# EAGLE library part RJ45-8-2 (library apollo-ctrl-v4)
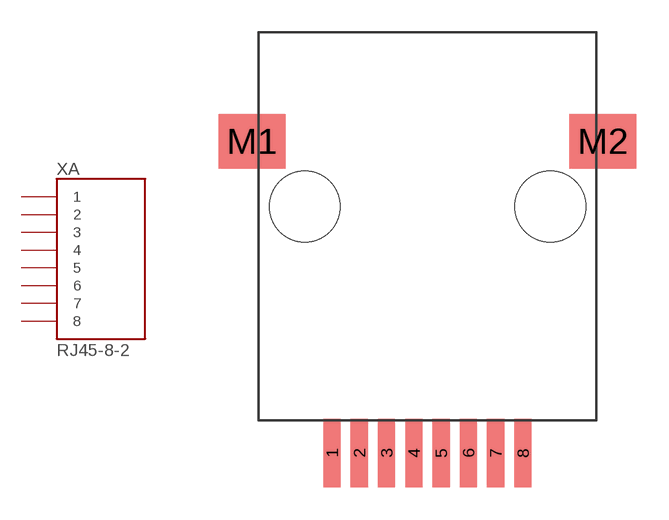
[diagram p4: symbol with the pads of CONEC-33TS3004ST-88001; footprint CONEC-33TS3004ST-88001]

Designator prefix X; gates A=RJ45-8 B=POINT C=POINT

## RJ45-8-2-CONEC-1  [CONEC-33TS3004ST-88001]
1  A:1
2  A:2
3  A:3
4  A:4
5  A:5
6  A:6
7  A:7
8  A:8
M1  B:P$1
M2  C:P$1

## Footprint CONEC-33TS3004ST-88001 (pad centres in mm)
smd 0.8 x 3.2: 1 -4.445,-14.52; 2 -3.175,-14.52; 3 -1.905,-14.52; 4 -0.635,-14.52; 5 0.635,-14.52; 6 1.905,-14.52; 7 3.175,-14.52; 8 4.445,-14.52
smd 3.12 x 2.54: M1 -8.17,0; M2 8.17,0
hole 3.3 at -5.715,-3.05
hole 3.3 at 5.715,-3.05